# Altium footprint library TH Switches.PcbLib: 37 footprints (part 1 of 3)
Each footprint in its own frame and in the unit in brackets; x right, y up, seen from the top. Pads: shape width x height; smd on the part's side, far side on the other; paste and mask are expansions set on the pad; w line width, h text height; cw(c..) or ccw(c..) is an arc to the next point about the centre after c.
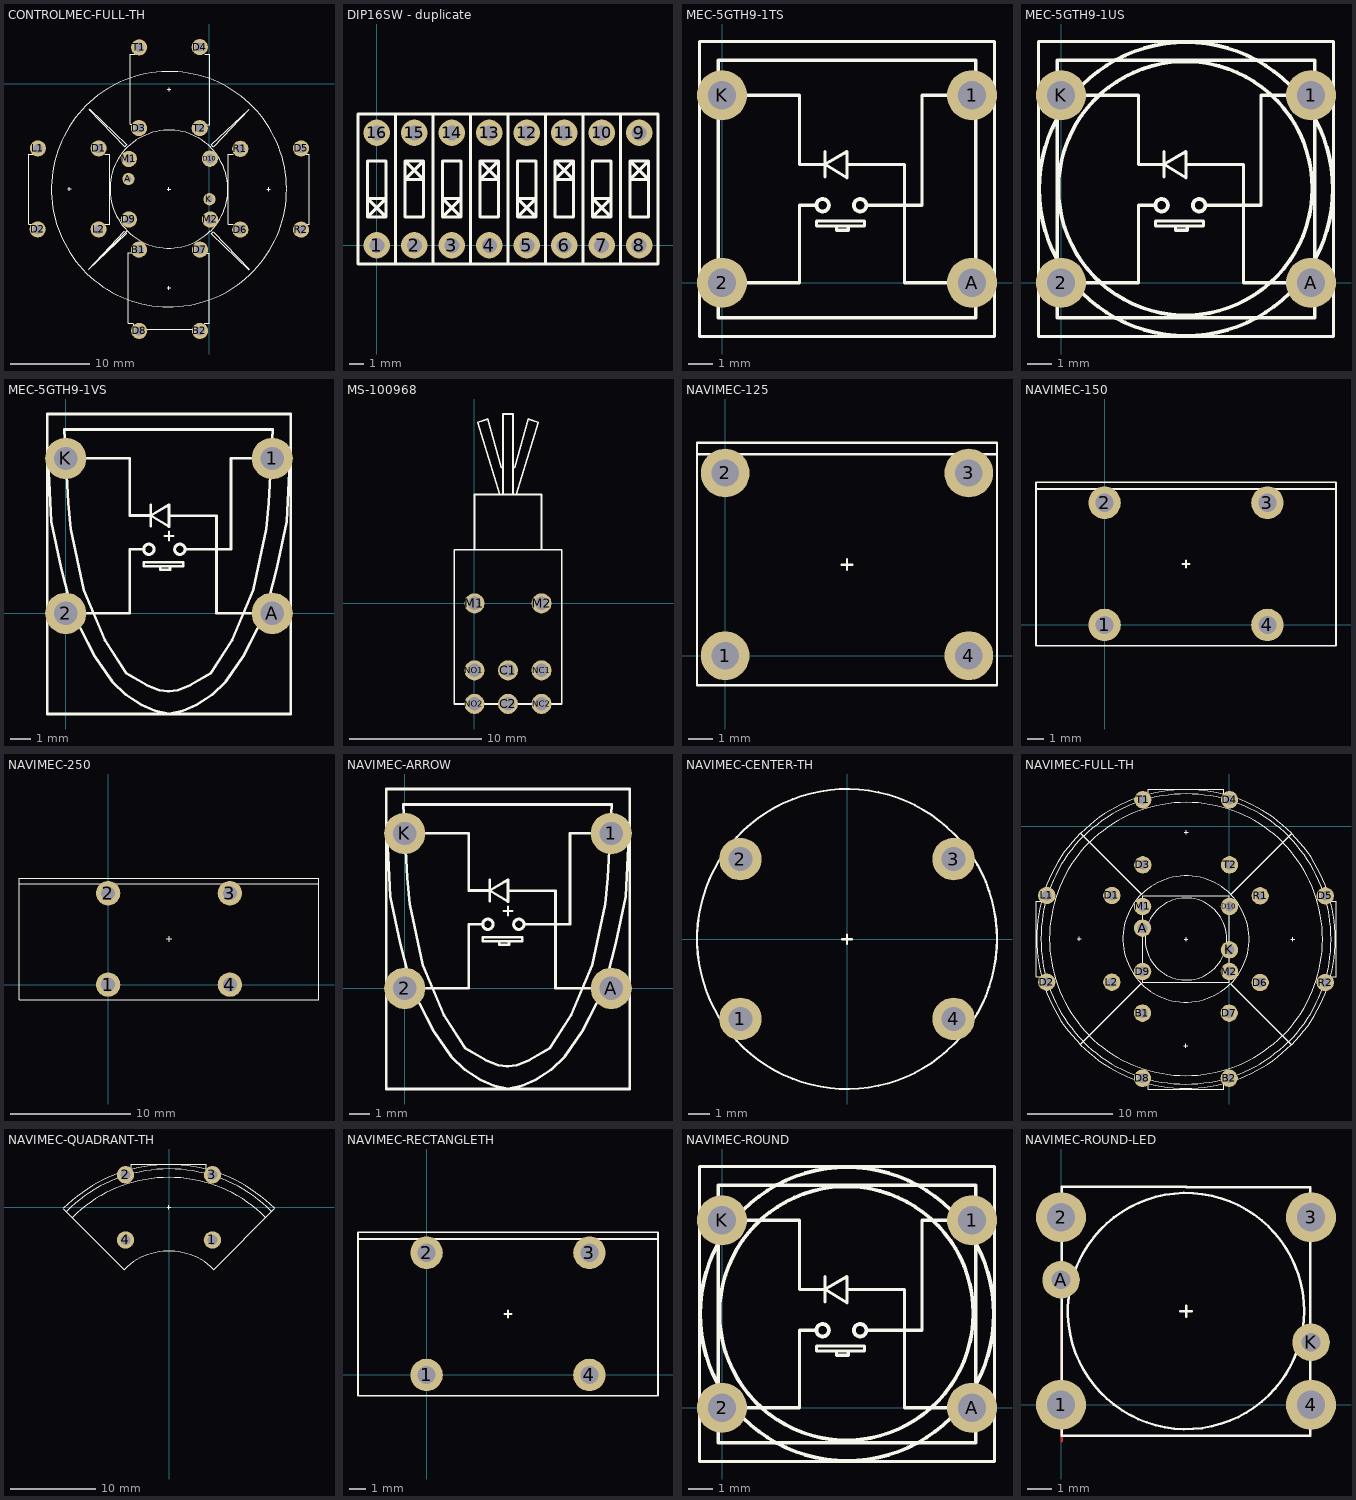
[diagram p0: the footprints below, top view; thin cyan lines are the x and y axes]

## CONTROLMEC-FULL-TH [mil]
pads (22):
  round 60 hole 30: A(-399,-470) K(1,-570)
  round 80 hole 45: B1(-347,-819) B2(-46,-1220) D1(-546,-319) D2(-847,-719) D3(-347,-219) D4(-47,181) D5(453,-319) D6(153,-720) D7(-46,-819) D8(-346,-1220) D9(-397,-670) D10(3,-370) L1(-846,-319) L2(-546,-719) M1(-397,-371) M2(4,-670) R1(153,-321) R2(453,-720) T1(-346,180) T2(-47,-219)
Top Overlay:
  lines w4: -866.98,-346.76 -890.61,-346.76 -890.61,-693.21 -866,-693.21 ; -699.86,-519.26 -682.14,-519.26 ; -691,-528.12 -691,-510.4 ; -595.95,-915.05 -404.46,-724.78 ; -516,-693.21 -491.39,-693.21 -491.39,-346.76 -515.02,-346.76 ; -406.01,-725.68 ccw(c-200,-519.68) 6.01,-725.68 ; -404.68,-725.01 cw(c-198.68,-519) -404.68,-312.99 ; -404.01,-314.32 cw(c-198,-520.32) 8.01,-314.32 ; -375.98,-1181.5 -399.61,-1181.5 -399.61,-835.05 -375,-835.05 ; -372.24,-1187.98 -372.24,-1211.61 -25.79,-1211.61 -25.79,-1187 ; -365.39,-200.5 -389.01,-200.5 -389.01,145.95 -364.4,145.95 ; -208.6,-1008 -190.88,-1008 ; -207.86,-520.39 -190.14,-520.39 ; -207.12,-28 -189.4,-28 ; -199.74,-1016.86 -199.74,-999.14 ; -199,-529.25 -199,-511.54 ; -198.26,-36.86 -198.26,-19.14 ; -25,-1182.95 -0.39,-1182.95 -0.39,-836.5 -24.02,-836.5 ; -23.26,-201.95 1.35,-201.95 1.35,144.5 -22.28,144.5 ; 6.68,-727.01 ccw(c-199.32,-521) 6.68,-314.99 ; 118.02,-693.24 94.39,-693.24 94.39,-346.79 119,-346.79 ; 284.14,-520.74 301.86,-520.74 ; 293,-529.6 293,-511.88 ; 468,-346.79 492.61,-346.79 492.61,-693.24 468.98,-693.24
  lines w5: -595.95,-915.05 -419,-729 -413,-733.27 -408.73,-739.27 -594.79,-916.21 ; -594.82,-124.61 -417.88,-310.66 -411.88,-306.39 -407.61,-300.39 -593.66,-123.45 ; 195.66,-917.34 9.61,-740.39 13.88,-734.39 19.88,-730.12 196.82,-916.18 ; 196.79,-124.57 10.73,-301.52 15,-307.52 21,-311.79 197.95,-125.73
  lines w6: 381.71,-520.39 cw(c-199,-520.39) 381.69,-515.93
3D body: height 483.4, standoff -138.39, extent -892.85,-1225.9 500.85,185.9

## DIP16SW - duplicate [mil]
pads (16):
  round 70 hole 40: 1(0,0) 2(100,0) 3(200,0) 4(300,0) 5(400,0) 6(500,0) 7(600,0) 8(700,0) 9(700,300) 10(600,300) 11(500,300) 12(400,300) 13(300,300) 14(200,300) 15(100,300) 16(0,300)
Top Overlay:
  lines w8: 50,-50 50,350 ; 250,-50 250,350 ; 450,-50 450,350 ; 650,-50 650,350 ; -25,75 25,75 ; -25,75 -25,225 25,225 25,75 ; -25,75 -25,125 ; -25,75 25,125 -25,125 ; -25,75 -25,125 ; -25,125 25,75 ; 75,225 75,75 125,75 125,225 ; 75,225 125,225 ; 75,225 125,175 ; 125,175 75,175 125,225 ; 125,175 125,225 ; 150,-50 -50,-50 -50,350 150,350 ; 150,-50 150,350 ; 150,-50 350,-50 ; 150,-50 150,350 ; 150,350 350,350 ; 175,75 225,75 ; 175,75 175,225 225,225 225,75 ; 175,75 175,125 ; 175,75 225,125 175,125 ; 175,75 175,125 ; 175,125 225,75 ; 275,225 275,75 325,75 325,225 ; 275,225 325,225 ; 275,225 325,175 ; 325,175 275,175 325,225 ; 325,175 325,225 ; 350,-50 350,350 ; 350,-50 550,-50 ; 350,-50 350,350 ; 350,350 550,350 ; 375,75 425,75 ; 375,75 375,225 425,225 425,75 ; 375,75 375,125 ; 375,75 425,125 375,125 ; 375,75 375,125 ; 375,125 425,75 ; 475,225 475,75 525,75 525,225 ; 475,225 525,225 ; 475,225 525,175 ; 525,175 475,175 525,225 ; 525,175 525,225 ; 550,-50 550,350 ; 550,-50 750,-50 750,350 550,350 ; 550,-50 550,350 ; 575,75 625,75 ; 575,75 575,225 625,225 625,75 ; 575,75 575,125 ; 575,75 625,125 575,125 ; 575,75 575,125 ; 575,125 625,75 ; 675,225 675,75 725,75 725,225 ; 675,225 725,225 ; 675,225 725,175 ; 725,175 675,175 725,225 ; 725,175 725,225
3D body: height 150, standoff 0, extent -50,-50 750,350
3D body: height 151, standoff 0, extent -25,75 25,225
3D body: height 200, standoff 0, extent -50,-50 750,75
3D body: height 200, standoff 0, extent -50,225 750,350
3D body: height 200, standoff 0, extent 25,75 75,225
3D body: height 200, standoff 0, extent -50,75 -25,225
3D body: height 200, standoff 0, extent 125,75 175,225
3D body: height 151, standoff 0, extent 75,75 125,225
3D body: height 200, standoff 0, extent 225,75 275,225
3D body: height 151, standoff 0, extent 175,75 225,225
3D body: height 200, standoff 0, extent 325,75 375,225
3D body: height 151, standoff 0, extent 275,75 325,225
3D body: height 200, standoff 0, extent 425,75 475,225
3D body: height 151, standoff 0, extent 375,75 425,225
3D body: height 200, standoff 0, extent 525,75 575,225
3D body: height 151, standoff 0, extent 475,75 525,225
3D body: height 200, standoff 0, extent 625,75 675,225
3D body: height 151, standoff 0, extent 575,75 625,225
3D body: height 200, standoff 0, extent 725,75 750,225
3D body: height 151, standoff 0, extent 675,75 725,225
3D body: height 250, standoff 50, extent -25,75 25,125
3D body: height 250, standoff 50, extent 75,175 125,225
3D body: height 250, standoff 50, extent 275,175 325,225
3D body: height 250, standoff 50, extent 175,75 225,125
3D body: height 250, standoff 50, extent 475,175 525,225
3D body: height 250, standoff 50, extent 375,75 425,125
3D body: height 250, standoff 50, extent 675,175 725,225
3D body: height 250, standoff 50, extent 575,75 625,125
3D body: height 201, standoff 200, extent -20.49,255 30.49,330.98
3D body: height 201, standoff 200, extent 55,255.49 105,330.49

## MEC-5GTH9-1TS [mil] "MEC MULTIMEC 5G THROUGH HOLE + SQUARE CAP"
pads (4):
  round 80 hole 45: 1(400,300) 2(0,0) A(400,0) K(0,300)
Top Overlay:
  circle w6: c161,124 r10
  circle w6: c221,124 r10
  lines w5: 0,0 124,0 124,124 151,124 ; 0,300 124,300 124,189.5 165,189.5 ; 165,169 165,210 ; 183,90 183,84 202,84 202,90 ; 200,189 292,189 292,0 400,0 ; 231,124 320,124 320,300 400,300 ; 165,189.5 200,210 200,168 165,189.5 ; -36,-86 -36,386 436,386 436,-86 -36,-86 ; -6,-56 10,-56 403,-56 406,-56 406,-51 406,-40 406,353 406,356 390,356 -3,356 -6,356 -6,351 -6,340 -6,-53 -6,-56 ; 151,91 228,91 228,99 151,99 151,91
3D body: height 588.43, standoff -153.54, extent -35.4,-88.4 439.4,386.4

## MEC-5GTH9-1US [mil] "MEC MULTIMEC 5G THROUGH HOLE + ROUND CAP"
pads (4):
  round 80 hole 45: 1(400,300) 2(0,0) A(400,0) K(0,300)
Top Overlay:
  circle w6: c221,124 r10
  circle w6: c161,124 r10
  circle w6: c200,150 r235.02
  circle w6: c199,151 r203
  lines w5: 0,0 124,0 124,124 151,124 ; 0,300 124,300 124,189.5 165,189.5 ; 165,169 165,210 ; 183,90 183,84 202,84 202,90 ; 200,189 292,189 292,0 400,0 ; 231,124 320,124 320,300 400,300 ; 165,189.5 200,168 200,210 165,189.5 ; -36,-86 -36,386 436,386 436,-86 -36,-86 ; -6,-56 10,-56 403,-56 406,-56 406,-51 406,-40 406,353 406,356 390,356 -3,356 -6,356 -6,351 -6,340 -6,-53 -6,-56 ; 151,91 151,99 228,99 228,91 151,91
3D body: height 586.86, standoff -153.54, extent -36.21,-85.75 434.36,385.76

## MEC-5GTH9-1VS [mil] "MEC MULTIMEC 5G THROUGH HOLE + ARROW CAP"
pads (4):
  round 80 hole 45: 1(400,300) 2(0,0) A(400,0) K(0,300)
Top Overlay:
  circle w6: c221,124 r10
  circle w6: c161,124 r10
  lines w4: 191.14,149.61 208.86,149.61 191.14,149.61 ; 200,140.75 200,158.46 200,140.75
  lines w5: 0,0 124,0 124,124 151,124 ; 0,300 124,300 124,189.5 165,189.5 ; 165,169 165,210 ; 183,90 183,84 202,84 202,90 ; 198,-151 181,-149 157,-139 117,-116 76,-52 35,45 10,163 5,214 -3,356 390,356 401,356 393,214 388,163 363,45 322,-52 281,-116 241,-139 217,-149 200,-151 ; 200,189 292,189 292,0 400,0 ; 231,124 320,124 320,300 400,300 ; -36,386 -36,-195 200,-195 ; -36,386 436,386 ; -36,386 -36,330.71 -28.03,178 -9,87 15,-3 56,-83 90,-132 117,-158 146,-177 173,-189 200,-195 ; 165,189.5 200,168 200,210 165,189.5 ; 200,-195 436,-195 436,386 ; 200,-195 227,-189 254,-177 283,-158 310,-132 344,-83 385,-3 409,87 428.03,178 436,330.71 436,386 ; 151,91 151,99 228,99 228,91 151,91
3D body: height 588.43, standoff -153.54, extent -36.23,-192.16 436.25,385.89

## MS-100968 [mil]
pads (8):
  round 60 hole 40: C1(100,-200) C2(100,-300) M1(0,0) M2(200,0) NC1(200,-200) NC2(200,-300) NO1(0,-200) NO2(0,-300)
Top Overlay:
  lines w5: 75,325 10,540 40,550 80,405 ; 85,325 85,565 100,565 115,565 115,325 ; 120,405 160,550 190,540 125,325 ; 0,160 -60,160 -60,-300 100,-300 260,-300 260,160 200,160 ; 0,160 0,325 100,325 200,325 200,160 ; 0,160 200,160

## NAVIMEC-125 [mil]
pads (4):
  round 80 hole 45: 1(0,0) 2(0,300) 3(400,300) 4(400,0)
Top Overlay:
  lines w4: -46.26,330.71 445.28,330.71 ; 191.14,149.61 208.86,149.61 ; 200,140.75 200,158.46 ; -46.26,-48.23 -46.26,150.59 -46.26,349.41 446.26,349.41 446.26,150.59 446.26,-48.23 -46.26,-48.23

## NAVIMEC-150 [mil]
pads (4):
  round 80 hole 45: 1(0,0) 2(0,300) 3(400,300) 4(400,0)
Top Overlay:
  lines w4: -168.31,333.66 567.32,333.66 568.31,332.68 ; 191.14,149.61 208.86,149.61 ; 199.8,-51.18 -168.31,-51.18 -168.31,147.64 -168.31,151.57 -168.31,350.39 ; 199.8,350.39 -168.31,350.39 ; 200,140.75 200,158.46 ; 200.2,-51.18 568.31,-51.18 568.31,147.64 568.31,151.57 568.31,350.39 200.2,350.39 ; -168.31,350.39 -168.31,350.39

## NAVIMEC-250 [mil]
pads (4):
  round 80 hole 45: 1(0,0) 2(0,300) 3(400,300) 4(400,0)
Top Overlay:
  lines w4: -292.32,330.71 -46.26,330.71 445.28,330.71 692.32,330.71 ; 191.14,149.61 208.86,149.61 ; 200,140.75 200,158.46 ; -292.32,-50.2 -292.32,149.61 -292.32,349.41 -46.26,349.41 446.26,349.41 692.32,349.41 692.32,149.61 692.32,-50.2 446.26,-50.2 -46.26,-50.2 -292.32,-50.2

## NAVIMEC-ARROW [mil]
pads (4):
  round 80 hole 45: 1(400,300) 2(0,0) A(400,0) K(0,300)
Top Overlay:
  circle w6: c221,124 r10
  circle w6: c161,124 r10
  lines w4: 191.14,149.61 208.86,149.61 191.14,149.61 ; 200,140.75 200,158.46 200,140.75
  lines w5: 0,0 124,0 124,124 151,124 ; 0,300 124,300 124,189.5 165,189.5 ; 165,169 165,210 ; 183,90 183,84 202,84 202,90 ; 198,-151 181,-149 157,-139 117,-116 76,-52 35,45 10,163 5,214 -3,356 390,356 401,356 393,214 388,163 363,45 322,-52 281,-116 241,-139 217,-149 200,-151 ; 200,189 292,189 292,0 400,0 ; 231,124 320,124 320,300 400,300 ; -36,386 -36,-195 200,-195 ; -36,386 436,386 ; -36,386 -36,330.71 -28.03,178 -9,87 15,-3 56,-83 90,-132 117,-158 146,-177 173,-189 200,-195 ; 165,189.5 200,168 200,210 165,189.5 ; 200,-195 436,-195 436,386 ; 200,-195 227,-189 254,-177 283,-158 310,-132 344,-83 385,-3 409,87 428.03,178 436,330.71 436,386 ; 151,91 151,99 228,99 228,91 151,91
3D body: height 588.43, standoff -153.54, extent -36.23,-192.16 436.25,385.89

## NAVIMEC-CENTER-TH [mil]
pads (4):
  round 80 hole 45: 1(-200.2,-149.61) 2(-200.2,150.39) 3(199.8,150.39) 4(199.8,-149.61)
Top Overlay:
  circle w4: c-0.2,0.39 r281.5
  lines w4: -9.06,0 8.66,0 ; -0.2,-8.86 -0.2,8.86

## NAVIMEC-FULL-TH [mil]
pads (22):
  round 80 hole 45: A(-399,-470) B1(-399.8,-862) B2(0.2,-1162) D1(-541,-319.2) D2(-841,-719.2) D3(-398.2,-178) D4(1.8,122) D5(443,-320.8) D6(143,-720.8) D7(0.2,-862) D8(-399.8,-1162) D9(-399,-670) D10(1,-370) K(1,-570) L1(-841,-319.2) L2(-541,-719.2) M1(-399,-370) M2(1,-670) R1(143,-320.8) R2(443,-720.8) T1(-398.2,122) T2(1.8,-178)
Top Layer:
  lines w4: -398.02,-728.07 -398.02,-520.39
Top Overlay:
  circle w4: c-199,-520 r188.98
  lines w4: -866.98,-346.76 -890.61,-346.76 -890.61,-693.21 -866,-693.21 ; -699.86,-519.26 -682.14,-519.26 ; -691,-528.12 -691,-510.4 ; -685.86,-1006.18 cw(c-198.68,-519) -685.86,-31.82 -404.7,-312.98 ccw(c-198.68,-519) -404.68,-725.01 ; -685.65,-1005.98 -404.46,-724.78 ; -685.18,-33.14 cw(c-198,-520.32) 289.18,-33.14 8.02,-314.3 ccw(c-198,-520.32) -404.01,-314.32 ; -684.98,-33.35 -403.78,-314.54 ; -673.26,-992.94 ccw(c-200,-519.68) 273.26,-992.94 ; -671.94,-992.26 cw(c-198.68,-519) -671.94,-45.74 ; -671.26,-47.06 cw(c-198,-520.32) 275.26,-47.06 ; -645.42,-965.1 ccw(c-200,-519.68) 245.42,-965.1 ; -644.1,-964.42 cw(c-198.68,-519) -644.1,-73.58 ; -643.42,-74.9 cw(c-198,-520.32) 247.42,-74.9 ; -398.02,-520.39 -398.02,-719.21 -199.2,-719.21 ; -397.82,-520.2 -397.82,-321.38 -199,-321.38 ; -372.24,-1187.98 -372.24,-1211.61 -25.79,-1211.61 -25.79,-1187 ; -372.21,147 -372.21,171.61 -25.76,171.61 -25.76,147.98 ; -208.6,-1012 -190.88,-1012 ; -207.86,-520.39 -190.14,-520.39 ; -207.12,-28 -189.4,-28 ; -199.74,-1020.86 -199.74,-1003.14 ; -199,-719.41 -0.18,-719.41 -0.18,-520.59 ; -199,-529.25 -199,-511.54 ; -198.8,-321.57 0.02,-321.57 0.02,-520.39 ; -198.26,-36.86 -198.26,-19.14 ; 5.78,-725.46 286.98,-1006.65 ; 6.01,-725.68 cw(c-200,-519.68) -406.01,-725.68 -687.18,-1006.86 ccw(c-200,-519.68) 287.18,-1006.86 ; 6.46,-315.22 287.65,-34.02 ; 6.68,-314.99 cw(c-199.32,-521) 6.68,-727.01 287.86,-1008.18 ccw(c-199.32,-521) 287.86,-33.82 ; 246.1,-966.42 ccw(c-199.32,-521) 246.1,-75.58 ; 273.94,-994.26 ccw(c-199.32,-521) 273.94,-47.74 ; 284.14,-520.74 301.86,-520.74 ; 293,-529.6 293,-511.88 ; 468,-346.79 492.61,-346.79 492.61,-693.24 468.98,-693.24
3D body: height 480.77, standoff -153.54, extent -885.97,-1208.09 491.98,169.86

## NAVIMEC-QUADRANT-TH [mil]
pads (4):
  round 80 hole 45: 1(199.8,-150) 2(-200.2,150) 3(199.8,150) 4(-200.2,-150)
Top Overlay:
  lines w4: -487.18,-5.14 cw(c0,-492.32) 487.18,-5.14 206.02,-286.3 ccw(c0,-492.32) -206.01,-286.32 ; -486.98,-5.35 -205.78,-286.54 ; -473.26,-19.06 cw(c0,-492.32) 473.26,-19.06 ; -445.42,-46.9 cw(c0,-492.32) 445.42,-46.9 ; -174.21,175 -174.21,199.61 172.24,199.61 172.24,175.98 ; -9.12,0 8.6,0 ; -0.26,-8.86 -0.26,8.86

## NAVIMEC-RECTANGLETH [mil]
pads (4):
  round 80 hole 45: 1(0,0) 2(0,300) 3(400,300) 4(400,0)
Top Overlay:
  lines w4: -168.31,333.66 567.32,333.66 568.31,332.68 ; 191.14,149.61 208.86,149.61 ; 199.8,-51.18 -168.31,-51.18 -168.31,147.64 -168.31,151.57 -168.31,350.39 ; 199.8,350.39 -168.31,350.39 ; 200,140.75 200,158.46 ; 200.2,-51.18 568.31,-51.18 568.31,147.64 568.31,151.57 568.31,350.39 200.2,350.39 ; -168.31,350.39 -168.31,350.39

## NAVIMEC-ROUND [mil]
pads (4):
  round 80 hole 45: 1(400,300) 2(0,0) A(400,0) K(0,300)
Top Overlay:
  circle w6: c221,124 r10
  circle w6: c161,124 r10
  circle w6: c200,150 r235.02
  circle w6: c199,151 r203
  lines w5: 0,0 124,0 124,124 151,124 ; 0,300 124,300 124,189.5 165,189.5 ; 165,169 165,210 ; 183,90 183,84 202,84 202,90 ; 200,189 292,189 292,0 400,0 ; 231,124 320,124 320,300 400,300 ; 165,189.5 200,168 200,210 165,189.5 ; -36,-86 -36,386 436,386 436,-86 -36,-86 ; -6,-56 10,-56 403,-56 406,-56 406,-51 406,-40 406,353 406,356 390,356 -3,356 -6,356 -6,351 -6,340 -6,-53 -6,-56 ; 151,91 151,99 228,99 228,91 151,91
3D body: height 286.86, standoff -453.54, extent -36.21,-85.75 434.36,385.76

## NAVIMEC-ROUND-LED [mil]
pads (6):
  round 80 hole 45: 1(0,0) 2(0,300) 3(400,300) 4(400,0)
  round 60 hole 30: A(0,200) K(400,100)
Top Layer:
  lines w4: 0.98,-58.07 0.98,149.61
Top Overlay:
  circle w4: c200,150 r188.98
  lines w4: 0.98,149.61 0.98,-49.21 199.8,-49.21 ; 1.18,149.8 1.18,348.62 200,348.62 ; 191.14,149.61 208.86,149.61 ; 200,-49.41 398.82,-49.41 398.82,149.41 ; 200,140.75 200,158.46 ; 200.2,348.43 399.02,348.43 399.02,149.61